# EAGLE library part ADG5419BRMZ (library 31813 Neutron Readout PCB)
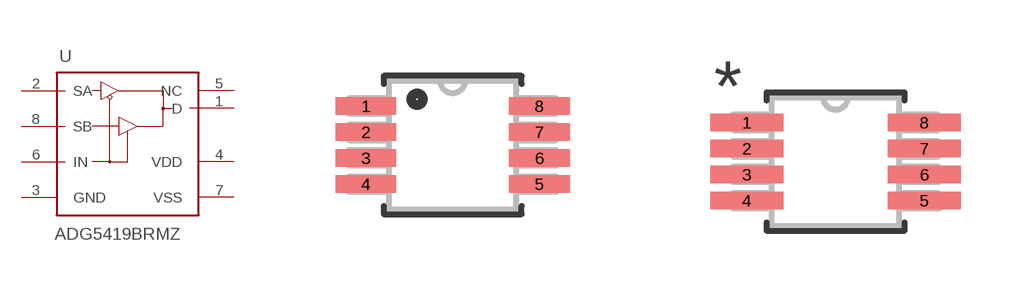
[diagram p0: symbol with the pads of RM_8_ADI; footprints RM_8_ADI, RM_8_ADI-M]

Designator prefix U

## ADG5419BRMZ (BUILT_BY: EMA_UL_Team; MANUFACTURER_PART_NUMBER: ADG5419BRMZ; SOURCELIBRARY: Analog_2015-12-15; VENDOR: Analog Devices Inc)  [RM_8_ADI]
1  D  pas
2  SA  pas
3  GND  pas
4  VDD  pas
5  NC  nc
6  IN  pas
7  VSS  pas
8  SB  pas

## ADG5419BRMZRM_8_ADI-M (BUILT_BY: EMA_UL_Team; MANUFACTURER_PART_NUMBER: ADG5419BRMZ; SOURCELIBRARY: Analog_2015-12-15; VENDOR: Analog Devices Inc)  [RM_8_ADI-M]
Pads as for RM_8_ADI

## ADG5419BRMZRM_8_ADI-L (BUILT_BY: EMA_UL_Team; MANUFACTURER_PART_NUMBER: ADG5419BRMZ; SOURCELIBRARY: Analog_2015-12-15; VENDOR: Analog Devices Inc)  [RM_8_ADI-L]
Pads as for RM_8_ADI

## Footprint RM_8_ADI (pad centres in mm)
smd 1.524 x 0.432: 1 -2.172,0.975; 2 -2.172,0.325; 3 -2.172,-0.325; 4 -2.172,-0.975; 5 2.172,-0.975; 6 2.172,-0.325; 7 2.172,0.325; 8 2.172,0.975

## Footprint RM_8_ADI-M (pad centres in mm)
smd 1.829 x 0.432: 1 -2.223,0.975; 2 -2.223,0.325; 3 -2.223,-0.325; 4 -2.223,-0.975; 5 2.223,-0.975; 6 2.223,-0.325; 7 2.223,0.325; 8 2.223,0.975

## Footprint RM_8_ADI-L (pad centres in mm)
smd 1.219 x 0.381: 1 -2.121,0.975; 2 -2.121,0.325; 3 -2.121,-0.325; 4 -2.121,-0.975; 5 2.121,-0.975; 6 2.121,-0.325; 7 2.121,0.325; 8 2.121,0.975